# Altium integrated library Linear Technology Power Management System Supervisor, Monitor and Control.IntLib: 1611 symbols (part 89 of 100)
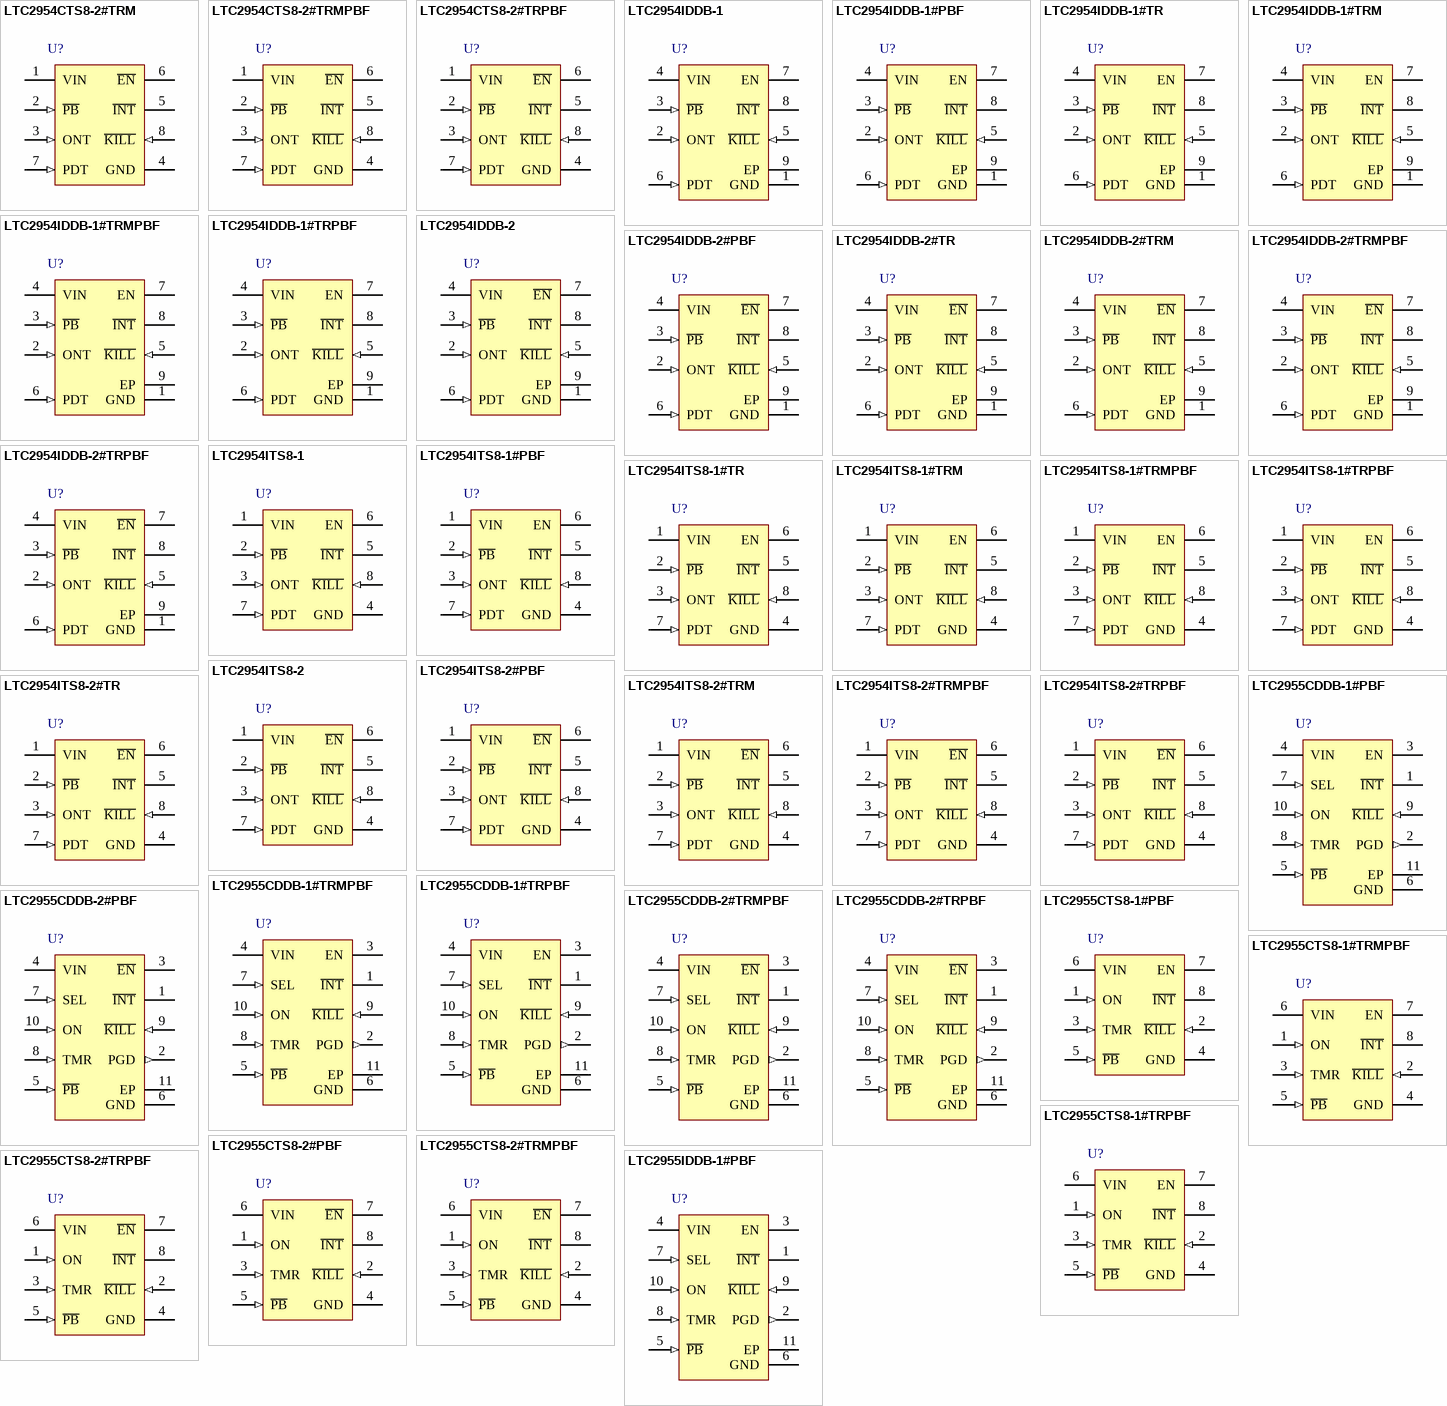
[diagram p133: symbols LTC2954CTS8-2#TRM to LTC2955IDDB-1#PBF]

## LTC2954CTS8-2#TRMPBF
designator U?
Pushbutton On / Off  Controller with µP Interrupt, 8-pin SOT23 (TS8-8), 0 to 70 degC, Pb-Free, Mini Tape and Reel; Manufacturer: Linear Technology; PartNumber: LTC2954CTS8-2#TRMPBF; Number of Supplies(#): 1; DatasheetVersion: Rev. B; PackageVersion: Rev. A, 08/2010; PackageReference: TS8-8; PackageDescription: 8-Pin Plastic TSOT-23, Body 2.9 x 1.63 mm, Pitch 0.65 mm; Supplier 1: Digi-Key; Supplier Part Number 1: LTC2954CTS8-2#TRMPBFTR-ND; Supplier 2: Digi-Key; Supplier Part Number 2: LTC2954CTS8-2#TRMPBFCT-ND; Supplier 3: Digi-Key; Supplier Part Number 3: LTC2954CTS8-2#TRMPBFDKR-ND; Supplier 4: Farnell; Supplier Part Number 4: 1663887RL; Supplier 5: Farnell; Supplier Part Number 5: 1663887; Supplier 6: Newark; Supplier Part Number 6: 56M7263; Packing: Mini Tape and Reel; RoHS: TRUE; Mounting Technology: Surface Mount; Code_JEDEC: MO-193; ComponentLink1Description: Manufacturer URL; ComponentLink1URL: http://www.linear.com/; ComponentLink2Description: Datasheet; ComponentLink2URL: http://cds.linear.com/docs/en/datasheet/2954fb.pdf; ComponentLink3Description: Package Specification; ComponentLink3URL: http://cds.linear.com/docs/en/packaging/SOT_8_05-08-1637.pdf
footprint LT-TS8-8-TSOT-23_V (SOT23, 8-Leads, Body 2.9x1.75mm, Pitch 0.65mm)
pins: 1 VIN (power) "Power Supply Input: 2.7V to 26.4V", 2 ~{PB} (in) "Pushbutton Input. Connecting P\B\ to  ground through a momentary switch provides on/off  control via the EN/E\N\ and I\N\T\ outputs. An internal 100k  pull-up resistor connects to an internal 1.9V bias voltage.  The rugged (See Datasheet)", 3 ONT (in) "Turn-On Time Input. Placing an external  capacitor to ground determines the additional time (6.4  seconds/uF) the P\B\ pin must be held low before the enable  output is asserted. Floating this pin results in a default  turn (See Datasheet)", 4 GND (power) "Device Ground.", 5 ~{INT} (oc) "Open Drain Interrupt Output. After a  pushbutton turn-off event is detected (tDB,OFF ), the LTC2954  interrupts the system (uP) by asserting the I\N\T\ pin low.  The uP would perform power-down and housekeeping  tasks and (See Datasheet)", 6 ~{EN} (oc) "Open Drain Enable Output.  This pin is intended to enable system power. EN is asserted  high after a valid P\B\ turn-on event (tDB,ON + tONT). EN is  released low if: a) K\I\L\L\ is not driven high (by uP) within  512ms of (See Datasheet)", 7 PDT (in) "Power-Down Time Input. A capacitor  to ground determines the additional time (6.4 seconds/uF)  that the pushbutton must be held low before immediately  releasing the EN/E\N\ and I\N\T\ outputs. Floating this pin  results in (See Datasheet)", 8 ~{KILL} (in) "Kill Input. Forcing K\I\L\L\ low releases the  enable output. During system turn-on, this pin is blanked by  a 512ms internal timer (tK\I\L\L\,ON BLANK) to allow the system  to pull K\I\L\L\ high. This pin has an accurate 0.(See Datasheet)"

## LTC2954CTS8-2#TRPBF
designator U?
Pushbutton On / Off  Controller with µP Interrupt, 8-pin SOT23 (TS8-8), 0 to 70 degC, Pb-Free, Tape and Reel; Manufacturer: Linear Technology; PartNumber: LTC2954CTS8-2#TRPBF; Number of Supplies(#): 1; DatasheetVersion: Rev. B; PackageVersion: Rev. A, 08/2010; PackageReference: TS8-8; PackageDescription: 8-Pin Plastic TSOT-23, Body 2.9 x 1.63 mm, Pitch 0.65 mm; Supplier 1: Digi-Key; Supplier Part Number 1: LTC2954CTS8-2#TRPBF-ND; Supplier 2: Newark; Supplier Part Number 2: 56M7264; Packing: Tape and Reel; RoHS: TRUE; Mounting Technology: Surface Mount; Code_JEDEC: MO-193; ComponentLink1Description: Manufacturer URL; ComponentLink1URL: http://www.linear.com/; ComponentLink2Description: Datasheet; ComponentLink2URL: http://cds.linear.com/docs/en/datasheet/2954fb.pdf; ComponentLink3Description: Package Specification; ComponentLink3URL: http://cds.linear.com/docs/en/packaging/SOT_8_05-08-1637.pdf
footprint LT-TS8-8-TSOT-23_V (SOT23, 8-Leads, Body 2.9x1.75mm, Pitch 0.65mm)
pins: 1 VIN (power) "Power Supply Input: 2.7V to 26.4V", 2 ~{PB} (in) "Pushbutton Input. Connecting P\B\ to  ground through a momentary switch provides on/off  control via the EN/E\N\ and I\N\T\ outputs. An internal 100k  pull-up resistor connects to an internal 1.9V bias voltage.  The rugged (See Datasheet)", 3 ONT (in) "Turn-On Time Input. Placing an external  capacitor to ground determines the additional time (6.4  seconds/uF) the P\B\ pin must be held low before the enable  output is asserted. Floating this pin results in a default  turn (See Datasheet)", 4 GND (power) "Device Ground.", 5 ~{INT} (oc) "Open Drain Interrupt Output. After a  pushbutton turn-off event is detected (tDB,OFF ), the LTC2954  interrupts the system (uP) by asserting the I\N\T\ pin low.  The uP would perform power-down and housekeeping  tasks and (See Datasheet)", 6 ~{EN} (oc) "Open Drain Enable Output.  This pin is intended to enable system power. EN is asserted  high after a valid P\B\ turn-on event (tDB,ON + tONT). EN is  released low if: a) K\I\L\L\ is not driven high (by uP) within  512ms of (See Datasheet)", 7 PDT (in) "Power-Down Time Input. A capacitor  to ground determines the additional time (6.4 seconds/uF)  that the pushbutton must be held low before immediately  releasing the EN/E\N\ and I\N\T\ outputs. Floating this pin  results in (See Datasheet)", 8 ~{KILL} (in) "Kill Input. Forcing K\I\L\L\ low releases the  enable output. During system turn-on, this pin is blanked by  a 512ms internal timer (tK\I\L\L\,ON BLANK) to allow the system  to pull K\I\L\L\ high. This pin has an accurate 0.(See Datasheet)"

## LTC2954IDDB-1
designator U?
Pushbutton On / Off  Controller with µP Interrupt, 8-pin SON (DDB-8), -40 to 85 degC; Manufacturer: Linear Technology; PartNumber: LTC2954IDDB-1; Number of Supplies(#): 1; DatasheetVersion: Rev. B; PackageVersion: Rev. B, 06/2010; PackageReference: DDB-8; PackageDescription: 8-Pin Plastic DFN, Body 3 x 2 mm, Pitch 0.5 mm; RoHS: FALSE; Mounting Technology: Surface Mount; Code_JEDEC: MO-229; ComponentLink1Description: Manufacturer URL; ComponentLink1URL: http://www.linear.com/; ComponentLink2Description: Datasheet; ComponentLink2URL: http://cds.linear.com/docs/en/datasheet/2954fb.pdf; ComponentLink3Description: Package Specification; ComponentLink3URL: http://cds.linear.com/docs/en/packaging/DFN_8_05-08-1702.pdf
footprint LT-DDB-8_V (SON, 8-Leads, Body 3x2mm, Pitch 0.5mm, Thermal Pad 2.2x0.61mm)
pins: 1 GND (power) "Device Ground.", 2 ONT (in) "Turn-On Time Input. Placing an external  capacitor to ground determines the additional time (6.4  seconds/uF) the P\B\ pin must be held low before the enable  output is asserted. Floating this pin results in a default  turn (See Datasheet)", 3 ~{PB} (in) "Pushbutton Input. Connecting P\B\ to  ground through a momentary switch provides on/off  control via the EN/E\N\ and I\N\T\ outputs. An internal 100k  pull-up resistor connects to an internal 1.9V bias voltage.  The rugged (See Datasheet)", 4 VIN (power) "Power Supply Input: 2.7V to 26.4V", 5 ~{KILL} (in) "Kill Input. Forcing K\I\L\L\ low releases the  enable output. During system turn-on, this pin is blanked by  a 512ms internal timer (tK\I\L\L\,ON BLANK) to allow the system  to pull K\I\L\L\ high. This pin has an accurate 0.(See Datasheet)", 6 PDT (in) "Power-Down Time Input. A capacitor  to ground determines the additional time (6.4 seconds/uF)  that the pushbutton must be held low before immediately  releasing the EN/E\N\ and I\N\T\ outputs. Floating this pin  results in (See Datasheet)", 7 EN (oc) "Open Drain Enable Output.  This pin is intended to enable system power. EN is asserted  high after a valid P\B\ turn-on event (tDB,ON + tONT). EN is  released low if: a) K\I\L\L\ is not driven high (by uP) within  512ms of (See Datasheet)", 8 ~{INT} (oc) "Open Drain Interrupt Output. After a  pushbutton turn-off event is detected (tDB,OFF ), the LTC2954  interrupts the system (uP) by asserting the I\N\T\ pin low.  The uP would perform power-down and housekeeping  tasks and (See Datasheet)", 9 EP (power) "Exposed Pad may be left  open or connected to device ground."

## LTC2954IDDB-1#PBF
designator U?
Pushbutton On / Off  Controller with µP Interrupt, 8-pin SON (DDB-8), -40 to 85 degC, Pb-Free; Manufacturer: Linear Technology; PartNumber: LTC2954IDDB-1#PBF; Number of Supplies(#): 1; DatasheetVersion: Rev. B; PackageVersion: Rev. B, 06/2010; PackageReference: DDB-8; PackageDescription: 8-Pin Plastic DFN, Body 3 x 2 mm, Pitch 0.5 mm; Supplier 1: Newark; Supplier Part Number 1: 78T3125; RoHS: TRUE; Mounting Technology: Surface Mount; Code_JEDEC: MO-229; ComponentLink1Description: Manufacturer URL; ComponentLink1URL: http://www.linear.com/; ComponentLink2Description: Datasheet; ComponentLink2URL: http://cds.linear.com/docs/en/datasheet/2954fb.pdf; ComponentLink3Description: Package Specification; ComponentLink3URL: http://cds.linear.com/docs/en/packaging/DFN_8_05-08-1702.pdf
footprint LT-DDB-8_V (SON, 8-Leads, Body 3x2mm, Pitch 0.5mm, Thermal Pad 2.2x0.61mm)
pins: 1 GND (power) "Device Ground.", 2 ONT (in) "Turn-On Time Input. Placing an external  capacitor to ground determines the additional time (6.4  seconds/uF) the P\B\ pin must be held low before the enable  output is asserted. Floating this pin results in a default  turn (See Datasheet)", 3 ~{PB} (in) "Pushbutton Input. Connecting P\B\ to  ground through a momentary switch provides on/off  control via the EN/E\N\ and I\N\T\ outputs. An internal 100k  pull-up resistor connects to an internal 1.9V bias voltage.  The rugged (See Datasheet)", 4 VIN (power) "Power Supply Input: 2.7V to 26.4V", 5 ~{KILL} (in) "Kill Input. Forcing K\I\L\L\ low releases the  enable output. During system turn-on, this pin is blanked by  a 512ms internal timer (tK\I\L\L\,ON BLANK) to allow the system  to pull K\I\L\L\ high. This pin has an accurate 0.(See Datasheet)", 6 PDT (in) "Power-Down Time Input. A capacitor  to ground determines the additional time (6.4 seconds/uF)  that the pushbutton must be held low before immediately  releasing the EN/E\N\ and I\N\T\ outputs. Floating this pin  results in (See Datasheet)", 7 EN (oc) "Open Drain Enable Output.  This pin is intended to enable system power. EN is asserted  high after a valid P\B\ turn-on event (tDB,ON + tONT). EN is  released low if: a) K\I\L\L\ is not driven high (by uP) within  512ms of (See Datasheet)", 8 ~{INT} (oc) "Open Drain Interrupt Output. After a  pushbutton turn-off event is detected (tDB,OFF ), the LTC2954  interrupts the system (uP) by asserting the I\N\T\ pin low.  The uP would perform power-down and housekeeping  tasks and (See Datasheet)", 9 EP (power) "Exposed Pad may be left  open or connected to device ground."

## LTC2954IDDB-1#TR
designator U?
Pushbutton On / Off  Controller with µP Interrupt, 8-pin SON (DDB-8), -40 to 85 degC, Tape and Reel; Manufacturer: Linear Technology; PartNumber: LTC2954IDDB-1#TR; Number of Supplies(#): 1; DatasheetVersion: Rev. B; PackageVersion: Rev. B, 06/2010; PackageReference: DDB-8; PackageDescription: 8-Pin Plastic DFN, Body 3 x 2 mm, Pitch 0.5 mm; Packing: Tape and Reel; RoHS: FALSE; Mounting Technology: Surface Mount; Code_JEDEC: MO-229; ComponentLink1Description: Manufacturer URL; ComponentLink1URL: http://www.linear.com/; ComponentLink2Description: Datasheet; ComponentLink2URL: http://cds.linear.com/docs/en/datasheet/2954fb.pdf; ComponentLink3Description: Package Specification; ComponentLink3URL: http://cds.linear.com/docs/en/packaging/DFN_8_05-08-1702.pdf
footprint LT-DDB-8_V (SON, 8-Leads, Body 3x2mm, Pitch 0.5mm, Thermal Pad 2.2x0.61mm)
pins: 1 GND (power) "Device Ground.", 2 ONT (in) "Turn-On Time Input. Placing an external  capacitor to ground determines the additional time (6.4  seconds/uF) the P\B\ pin must be held low before the enable  output is asserted. Floating this pin results in a default  turn (See Datasheet)", 3 ~{PB} (in) "Pushbutton Input. Connecting P\B\ to  ground through a momentary switch provides on/off  control via the EN/E\N\ and I\N\T\ outputs. An internal 100k  pull-up resistor connects to an internal 1.9V bias voltage.  The rugged (See Datasheet)", 4 VIN (power) "Power Supply Input: 2.7V to 26.4V", 5 ~{KILL} (in) "Kill Input. Forcing K\I\L\L\ low releases the  enable output. During system turn-on, this pin is blanked by  a 512ms internal timer (tK\I\L\L\,ON BLANK) to allow the system  to pull K\I\L\L\ high. This pin has an accurate 0.(See Datasheet)", 6 PDT (in) "Power-Down Time Input. A capacitor  to ground determines the additional time (6.4 seconds/uF)  that the pushbutton must be held low before immediately  releasing the EN/E\N\ and I\N\T\ outputs. Floating this pin  results in (See Datasheet)", 7 EN (oc) "Open Drain Enable Output.  This pin is intended to enable system power. EN is asserted  high after a valid P\B\ turn-on event (tDB,ON + tONT). EN is  released low if: a) K\I\L\L\ is not driven high (by uP) within  512ms of (See Datasheet)", 8 ~{INT} (oc) "Open Drain Interrupt Output. After a  pushbutton turn-off event is detected (tDB,OFF ), the LTC2954  interrupts the system (uP) by asserting the I\N\T\ pin low.  The uP would perform power-down and housekeeping  tasks and (See Datasheet)", 9 EP (power) "Exposed Pad may be left  open or connected to device ground."

## LTC2954IDDB-1#TRM
designator U?
Pushbutton On / Off  Controller with µP Interrupt, 8-pin SON (DDB-8), -40 to 85 degC, Mini Tape and Reel; Manufacturer: Linear Technology; PartNumber: LTC2954IDDB-1#TRM; Number of Supplies(#): 1; DatasheetVersion: Rev. B; PackageVersion: Rev. B, 06/2010; PackageReference: DDB-8; PackageDescription: 8-Pin Plastic DFN, Body 3 x 2 mm, Pitch 0.5 mm; Packing: Mini Tape and Reel; RoHS: FALSE; Mounting Technology: Surface Mount; Code_JEDEC: MO-229; ComponentLink1Description: Manufacturer URL; ComponentLink1URL: http://www.linear.com/; ComponentLink2Description: Datasheet; ComponentLink2URL: http://cds.linear.com/docs/en/datasheet/2954fb.pdf; ComponentLink3Description: Package Specification; ComponentLink3URL: http://cds.linear.com/docs/en/packaging/DFN_8_05-08-1702.pdf
footprint LT-DDB-8_V (SON, 8-Leads, Body 3x2mm, Pitch 0.5mm, Thermal Pad 2.2x0.61mm)
pins: 1 GND (power) "Device Ground.", 2 ONT (in) "Turn-On Time Input. Placing an external  capacitor to ground determines the additional time (6.4  seconds/uF) the P\B\ pin must be held low before the enable  output is asserted. Floating this pin results in a default  turn (See Datasheet)", 3 ~{PB} (in) "Pushbutton Input. Connecting P\B\ to  ground through a momentary switch provides on/off  control via the EN/E\N\ and I\N\T\ outputs. An internal 100k  pull-up resistor connects to an internal 1.9V bias voltage.  The rugged (See Datasheet)", 4 VIN (power) "Power Supply Input: 2.7V to 26.4V", 5 ~{KILL} (in) "Kill Input. Forcing K\I\L\L\ low releases the  enable output. During system turn-on, this pin is blanked by  a 512ms internal timer (tK\I\L\L\,ON BLANK) to allow the system  to pull K\I\L\L\ high. This pin has an accurate 0.(See Datasheet)", 6 PDT (in) "Power-Down Time Input. A capacitor  to ground determines the additional time (6.4 seconds/uF)  that the pushbutton must be held low before immediately  releasing the EN/E\N\ and I\N\T\ outputs. Floating this pin  results in (See Datasheet)", 7 EN (oc) "Open Drain Enable Output.  This pin is intended to enable system power. EN is asserted  high after a valid P\B\ turn-on event (tDB,ON + tONT). EN is  released low if: a) K\I\L\L\ is not driven high (by uP) within  512ms of (See Datasheet)", 8 ~{INT} (oc) "Open Drain Interrupt Output. After a  pushbutton turn-off event is detected (tDB,OFF ), the LTC2954  interrupts the system (uP) by asserting the I\N\T\ pin low.  The uP would perform power-down and housekeeping  tasks and (See Datasheet)", 9 EP (power) "Exposed Pad may be left  open or connected to device ground."

## LTC2954IDDB-1#TRMPBF
designator U?
Pushbutton On / Off  Controller with µP Interrupt, 8-pin SON (DDB-8), -40 to 85 degC, Pb-Free, Mini Tape and Reel; Manufacturer: Linear Technology; PartNumber: LTC2954IDDB-1#TRMPBF; Number of Supplies(#): 1; DatasheetVersion: Rev. B; PackageVersion: Rev. B, 06/2010; PackageReference: DDB-8; PackageDescription: 8-Pin Plastic DFN, Body 3 x 2 mm, Pitch 0.5 mm; Supplier 1: Digi-Key; Supplier Part Number 1: LTC2954IDDB-1#TRMPBFTR-ND; Supplier 2: Digi-Key; Supplier Part Number 2: LTC2954IDDB-1#TRMPBFCT-ND; Supplier 3: Digi-Key; Supplier Part Number 3: LTC2954IDDB-1#TRMPBFDKR-ND; Packing: Mini Tape and Reel; RoHS: TRUE; Mounting Technology: Surface Mount; Code_JEDEC: MO-229; ComponentLink1Description: Manufacturer URL; ComponentLink1URL: http://www.linear.com/; ComponentLink2Description: Datasheet; ComponentLink2URL: http://cds.linear.com/docs/en/datasheet/2954fb.pdf; ComponentLink3Description: Package Specification; ComponentLink3URL: http://cds.linear.com/docs/en/packaging/DFN_8_05-08-1702.pdf
footprint LT-DDB-8_V (SON, 8-Leads, Body 3x2mm, Pitch 0.5mm, Thermal Pad 2.2x0.61mm)
pins: 1 GND (power) "Device Ground.", 2 ONT (in) "Turn-On Time Input. Placing an external  capacitor to ground determines the additional time (6.4  seconds/uF) the P\B\ pin must be held low before the enable  output is asserted. Floating this pin results in a default  turn (See Datasheet)", 3 ~{PB} (in) "Pushbutton Input. Connecting P\B\ to  ground through a momentary switch provides on/off  control via the EN/E\N\ and I\N\T\ outputs. An internal 100k  pull-up resistor connects to an internal 1.9V bias voltage.  The rugged (See Datasheet)", 4 VIN (power) "Power Supply Input: 2.7V to 26.4V", 5 ~{KILL} (in) "Kill Input. Forcing K\I\L\L\ low releases the  enable output. During system turn-on, this pin is blanked by  a 512ms internal timer (tK\I\L\L\,ON BLANK) to allow the system  to pull K\I\L\L\ high. This pin has an accurate 0.(See Datasheet)", 6 PDT (in) "Power-Down Time Input. A capacitor  to ground determines the additional time (6.4 seconds/uF)  that the pushbutton must be held low before immediately  releasing the EN/E\N\ and I\N\T\ outputs. Floating this pin  results in (See Datasheet)", 7 EN (oc) "Open Drain Enable Output.  This pin is intended to enable system power. EN is asserted  high after a valid P\B\ turn-on event (tDB,ON + tONT). EN is  released low if: a) K\I\L\L\ is not driven high (by uP) within  512ms of (See Datasheet)", 8 ~{INT} (oc) "Open Drain Interrupt Output. After a  pushbutton turn-off event is detected (tDB,OFF ), the LTC2954  interrupts the system (uP) by asserting the I\N\T\ pin low.  The uP would perform power-down and housekeeping  tasks and (See Datasheet)", 9 EP (power) "Exposed Pad may be left  open or connected to device ground."

## LTC2954IDDB-1#TRPBF
designator U?
Pushbutton On / Off  Controller with µP Interrupt, 8-pin SON (DDB-8), -40 to 85 degC, Pb-Free, Tape and Reel; Manufacturer: Linear Technology; PartNumber: LTC2954IDDB-1#TRPBF; Number of Supplies(#): 1; DatasheetVersion: Rev. B; PackageVersion: Rev. B, 06/2010; PackageReference: DDB-8; PackageDescription: 8-Pin Plastic DFN, Body 3 x 2 mm, Pitch 0.5 mm; Supplier 1: Digi-Key; Supplier Part Number 1: LTC2954IDDB-1#TRPBF-ND; Packing: Tape and Reel; RoHS: TRUE; Mounting Technology: Surface Mount; Code_JEDEC: MO-229; ComponentLink1Description: Manufacturer URL; ComponentLink1URL: http://www.linear.com/; ComponentLink2Description: Datasheet; ComponentLink2URL: http://cds.linear.com/docs/en/datasheet/2954fb.pdf; ComponentLink3Description: Package Specification; ComponentLink3URL: http://cds.linear.com/docs/en/packaging/DFN_8_05-08-1702.pdf
footprint LT-DDB-8_V (SON, 8-Leads, Body 3x2mm, Pitch 0.5mm, Thermal Pad 2.2x0.61mm)
pins: 1 GND (power) "Device Ground.", 2 ONT (in) "Turn-On Time Input. Placing an external  capacitor to ground determines the additional time (6.4  seconds/uF) the P\B\ pin must be held low before the enable  output is asserted. Floating this pin results in a default  turn (See Datasheet)", 3 ~{PB} (in) "Pushbutton Input. Connecting P\B\ to  ground through a momentary switch provides on/off  control via the EN/E\N\ and I\N\T\ outputs. An internal 100k  pull-up resistor connects to an internal 1.9V bias voltage.  The rugged (See Datasheet)", 4 VIN (power) "Power Supply Input: 2.7V to 26.4V", 5 ~{KILL} (in) "Kill Input. Forcing K\I\L\L\ low releases the  enable output. During system turn-on, this pin is blanked by  a 512ms internal timer (tK\I\L\L\,ON BLANK) to allow the system  to pull K\I\L\L\ high. This pin has an accurate 0.(See Datasheet)", 6 PDT (in) "Power-Down Time Input. A capacitor  to ground determines the additional time (6.4 seconds/uF)  that the pushbutton must be held low before immediately  releasing the EN/E\N\ and I\N\T\ outputs. Floating this pin  results in (See Datasheet)", 7 EN (oc) "Open Drain Enable Output.  This pin is intended to enable system power. EN is asserted  high after a valid P\B\ turn-on event (tDB,ON + tONT). EN is  released low if: a) K\I\L\L\ is not driven high (by uP) within  512ms of (See Datasheet)", 8 ~{INT} (oc) "Open Drain Interrupt Output. After a  pushbutton turn-off event is detected (tDB,OFF ), the LTC2954  interrupts the system (uP) by asserting the I\N\T\ pin low.  The uP would perform power-down and housekeeping  tasks and (See Datasheet)", 9 EP (power) "Exposed Pad may be left  open or connected to device ground."

## LTC2954IDDB-2
designator U?
Pushbutton On / Off  Controller with µP Interrupt, 8-pin SON (DDB-8), -40 to 85 degC; Manufacturer: Linear Technology; PartNumber: LTC2954IDDB-2; Number of Supplies(#): 1; DatasheetVersion: Rev. B; PackageVersion: Rev. B, 06/2010; PackageReference: DDB-8; PackageDescription: 8-Pin Plastic DFN, Body 3 x 2 mm, Pitch 0.5 mm; RoHS: FALSE; Mounting Technology: Surface Mount; Code_JEDEC: MO-229; ComponentLink1Description: Manufacturer URL; ComponentLink1URL: http://www.linear.com/; ComponentLink2Description: Datasheet; ComponentLink2URL: http://cds.linear.com/docs/en/datasheet/2954fb.pdf; ComponentLink3Description: Package Specification; ComponentLink3URL: http://cds.linear.com/docs/en/packaging/DFN_8_05-08-1702.pdf
footprint LT-DDB-8_V (SON, 8-Leads, Body 3x2mm, Pitch 0.5mm, Thermal Pad 2.2x0.61mm)
pins: 1 GND (power) "Device Ground.", 2 ONT (in) "Turn-On Time Input. Placing an external  capacitor to ground determines the additional time (6.4  seconds/uF) the P\B\ pin must be held low before the enable  output is asserted. Floating this pin results in a default  turn (See Datasheet)", 3 ~{PB} (in) "Pushbutton Input. Connecting P\B\ to  ground through a momentary switch provides on/off  control via the EN/E\N\ and I\N\T\ outputs. An internal 100k  pull-up resistor connects to an internal 1.9V bias voltage.  The rugged (See Datasheet)", 4 VIN (power) "Power Supply Input: 2.7V to 26.4V", 5 ~{KILL} (in) "Kill Input. Forcing K\I\L\L\ low releases the  enable output. During system turn-on, this pin is blanked by  a 512ms internal timer (tK\I\L\L\,ON BLANK) to allow the system  to pull K\I\L\L\ high. This pin has an accurate 0.(See Datasheet)", 6 PDT (in) "Power-Down Time Input. A capacitor  to ground determines the additional time (6.4 seconds/uF)  that the pushbutton must be held low before immediately  releasing the EN/E\N\ and I\N\T\ outputs. Floating this pin  results in (See Datasheet)", 7 ~{EN} (oc) "Open Drain Enable Output.  This pin is intended to enable system power. EN is asserted  high after a valid P\B\ turn-on event (tDB,ON + tONT). EN is  released low if: a) K\I\L\L\ is not driven high (by uP) within  512ms of (See Datasheet)", 8 ~{INT} (oc) "Open Drain Interrupt Output. After a  pushbutton turn-off event is detected (tDB,OFF ), the LTC2954  interrupts the system (uP) by asserting the I\N\T\ pin low.  The uP would perform power-down and housekeeping  tasks and (See Datasheet)", 9 EP (power) "Exposed Pad may be left  open or connected to device ground."

## LTC2954IDDB-2#PBF
designator U?
Pushbutton On / Off  Controller with µP Interrupt, 8-pin SON (DDB-8), -40 to 85 degC, Pb-Free; Manufacturer: Linear Technology; PartNumber: LTC2954IDDB-2#PBF; Number of Supplies(#): 1; DatasheetVersion: Rev. B; PackageVersion: Rev. B, 06/2010; PackageReference: DDB-8; PackageDescription: 8-Pin Plastic DFN, Body 3 x 2 mm, Pitch 0.5 mm; Supplier 1: Newark; Supplier Part Number 1: 78T3126; RoHS: TRUE; Mounting Technology: Surface Mount; Code_JEDEC: MO-229; ComponentLink1Description: Manufacturer URL; ComponentLink1URL: http://www.linear.com/; ComponentLink2Description: Datasheet; ComponentLink2URL: http://cds.linear.com/docs/en/datasheet/2954fb.pdf; ComponentLink3Description: Package Specification; ComponentLink3URL: http://cds.linear.com/docs/en/packaging/DFN_8_05-08-1702.pdf
footprint LT-DDB-8_V (SON, 8-Leads, Body 3x2mm, Pitch 0.5mm, Thermal Pad 2.2x0.61mm)
pins: 1 GND (power) "Device Ground.", 2 ONT (in) "Turn-On Time Input. Placing an external  capacitor to ground determines the additional time (6.4  seconds/uF) the P\B\ pin must be held low before the enable  output is asserted. Floating this pin results in a default  turn (See Datasheet)", 3 ~{PB} (in) "Pushbutton Input. Connecting P\B\ to  ground through a momentary switch provides on/off  control via the EN/E\N\ and I\N\T\ outputs. An internal 100k  pull-up resistor connects to an internal 1.9V bias voltage.  The rugged (See Datasheet)", 4 VIN (power) "Power Supply Input: 2.7V to 26.4V", 5 ~{KILL} (in) "Kill Input. Forcing K\I\L\L\ low releases the  enable output. During system turn-on, this pin is blanked by  a 512ms internal timer (tK\I\L\L\,ON BLANK) to allow the system  to pull K\I\L\L\ high. This pin has an accurate 0.(See Datasheet)", 6 PDT (in) "Power-Down Time Input. A capacitor  to ground determines the additional time (6.4 seconds/uF)  that the pushbutton must be held low before immediately  releasing the EN/E\N\ and I\N\T\ outputs. Floating this pin  results in (See Datasheet)", 7 ~{EN} (oc) "Open Drain Enable Output.  This pin is intended to enable system power. EN is asserted  high after a valid P\B\ turn-on event (tDB,ON + tONT). EN is  released low if: a) K\I\L\L\ is not driven high (by uP) within  512ms of (See Datasheet)", 8 ~{INT} (oc) "Open Drain Interrupt Output. After a  pushbutton turn-off event is detected (tDB,OFF ), the LTC2954  interrupts the system (uP) by asserting the I\N\T\ pin low.  The uP would perform power-down and housekeeping  tasks and (See Datasheet)", 9 EP (power) "Exposed Pad may be left  open or connected to device ground."

## LTC2954IDDB-2#TR
designator U?
Pushbutton On / Off  Controller with µP Interrupt, 8-pin SON (DDB-8), -40 to 85 degC, Tape and Reel; Manufacturer: Linear Technology; PartNumber: LTC2954IDDB-2#TR; Number of Supplies(#): 1; DatasheetVersion: Rev. B; PackageVersion: Rev. B, 06/2010; PackageReference: DDB-8; PackageDescription: 8-Pin Plastic DFN, Body 3 x 2 mm, Pitch 0.5 mm; Packing: Tape and Reel; RoHS: FALSE; Mounting Technology: Surface Mount; Code_JEDEC: MO-229; ComponentLink1Description: Manufacturer URL; ComponentLink1URL: http://www.linear.com/; ComponentLink2Description: Datasheet; ComponentLink2URL: http://cds.linear.com/docs/en/datasheet/2954fb.pdf; ComponentLink3Description: Package Specification; ComponentLink3URL: http://cds.linear.com/docs/en/packaging/DFN_8_05-08-1702.pdf
footprint LT-DDB-8_V (SON, 8-Leads, Body 3x2mm, Pitch 0.5mm, Thermal Pad 2.2x0.61mm)
pins: 1 GND (power) "Device Ground.", 2 ONT (in) "Turn-On Time Input. Placing an external  capacitor to ground determines the additional time (6.4  seconds/uF) the P\B\ pin must be held low before the enable  output is asserted. Floating this pin results in a default  turn (See Datasheet)", 3 ~{PB} (in) "Pushbutton Input. Connecting P\B\ to  ground through a momentary switch provides on/off  control via the EN/E\N\ and I\N\T\ outputs. An internal 100k  pull-up resistor connects to an internal 1.9V bias voltage.  The rugged (See Datasheet)", 4 VIN (power) "Power Supply Input: 2.7V to 26.4V", 5 ~{KILL} (in) "Kill Input. Forcing K\I\L\L\ low releases the  enable output. During system turn-on, this pin is blanked by  a 512ms internal timer (tK\I\L\L\,ON BLANK) to allow the system  to pull K\I\L\L\ high. This pin has an accurate 0.(See Datasheet)", 6 PDT (in) "Power-Down Time Input. A capacitor  to ground determines the additional time (6.4 seconds/uF)  that the pushbutton must be held low before immediately  releasing the EN/E\N\ and I\N\T\ outputs. Floating this pin  results in (See Datasheet)", 7 ~{EN} (oc) "Open Drain Enable Output.  This pin is intended to enable system power. EN is asserted  high after a valid P\B\ turn-on event (tDB,ON + tONT). EN is  released low if: a) K\I\L\L\ is not driven high (by uP) within  512ms of (See Datasheet)", 8 ~{INT} (oc) "Open Drain Interrupt Output. After a  pushbutton turn-off event is detected (tDB,OFF ), the LTC2954  interrupts the system (uP) by asserting the I\N\T\ pin low.  The uP would perform power-down and housekeeping  tasks and (See Datasheet)", 9 EP (power) "Exposed Pad may be left  open or connected to device ground."

## LTC2954IDDB-2#TRM
designator U?
Pushbutton On / Off  Controller with µP Interrupt, 8-pin SON (DDB-8), -40 to 85 degC, Mini Tape and Reel; Manufacturer: Linear Technology; PartNumber: LTC2954IDDB-2#TRM; Number of Supplies(#): 1; DatasheetVersion: Rev. B; PackageVersion: Rev. B, 06/2010; PackageReference: DDB-8; PackageDescription: 8-Pin Plastic DFN, Body 3 x 2 mm, Pitch 0.5 mm; Packing: Mini Tape and Reel; RoHS: FALSE; Mounting Technology: Surface Mount; Code_JEDEC: MO-229; ComponentLink1Description: Manufacturer URL; ComponentLink1URL: http://www.linear.com/; ComponentLink2Description: Datasheet; ComponentLink2URL: http://cds.linear.com/docs/en/datasheet/2954fb.pdf; ComponentLink3Description: Package Specification; ComponentLink3URL: http://cds.linear.com/docs/en/packaging/DFN_8_05-08-1702.pdf
footprint LT-DDB-8_V (SON, 8-Leads, Body 3x2mm, Pitch 0.5mm, Thermal Pad 2.2x0.61mm)
pins: 1 GND (power) "Device Ground.", 2 ONT (in) "Turn-On Time Input. Placing an external  capacitor to ground determines the additional time (6.4  seconds/uF) the P\B\ pin must be held low before the enable  output is asserted. Floating this pin results in a default  turn (See Datasheet)", 3 ~{PB} (in) "Pushbutton Input. Connecting P\B\ to  ground through a momentary switch provides on/off  control via the EN/E\N\ and I\N\T\ outputs. An internal 100k  pull-up resistor connects to an internal 1.9V bias voltage.  The rugged (See Datasheet)", 4 VIN (power) "Power Supply Input: 2.7V to 26.4V", 5 ~{KILL} (in) "Kill Input. Forcing K\I\L\L\ low releases the  enable output. During system turn-on, this pin is blanked by  a 512ms internal timer (tK\I\L\L\,ON BLANK) to allow the system  to pull K\I\L\L\ high. This pin has an accurate 0.(See Datasheet)", 6 PDT (in) "Power-Down Time Input. A capacitor  to ground determines the additional time (6.4 seconds/uF)  that the pushbutton must be held low before immediately  releasing the EN/E\N\ and I\N\T\ outputs. Floating this pin  results in (See Datasheet)", 7 ~{EN} (oc) "Open Drain Enable Output.  This pin is intended to enable system power. EN is asserted  high after a valid P\B\ turn-on event (tDB,ON + tONT). EN is  released low if: a) K\I\L\L\ is not driven high (by uP) within  512ms of (See Datasheet)", 8 ~{INT} (oc) "Open Drain Interrupt Output. After a  pushbutton turn-off event is detected (tDB,OFF ), the LTC2954  interrupts the system (uP) by asserting the I\N\T\ pin low.  The uP would perform power-down and housekeeping  tasks and (See Datasheet)", 9 EP (power) "Exposed Pad may be left  open or connected to device ground."

## LTC2954IDDB-2#TRMPBF
designator U?
Pushbutton On / Off  Controller with µP Interrupt, 8-pin SON (DDB-8), -40 to 85 degC, Pb-Free, Mini Tape and Reel; Manufacturer: Linear Technology; PartNumber: LTC2954IDDB-2#TRMPBF; Number of Supplies(#): 1; DatasheetVersion: Rev. B; PackageVersion: Rev. B, 06/2010; PackageReference: DDB-8; PackageDescription: 8-Pin Plastic DFN, Body 3 x 2 mm, Pitch 0.5 mm; Supplier 1: Digi-Key; Supplier Part Number 1: LTC2954IDDB-2#TRMPBFTR-ND; Supplier 2: Digi-Key; Supplier Part Number 2: LTC2954IDDB-2#TRMPBFCT-ND; Supplier 3: Digi-Key; Supplier Part Number 3: LTC2954IDDB-2#TRMPBFDKR-ND; Supplier 4: Newark; Supplier Part Number 4: 56M7271; Packing: Mini Tape and Reel; RoHS: TRUE; Mounting Technology: Surface Mount; Code_JEDEC: MO-229; ComponentLink1Description: Manufacturer URL; ComponentLink1URL: http://www.linear.com/; ComponentLink2Description: Datasheet; ComponentLink2URL: http://cds.linear.com/docs/en/datasheet/2954fb.pdf; ComponentLink3Description: Package Specification; ComponentLink3URL: http://cds.linear.com/docs/en/packaging/DFN_8_05-08-1702.pdf
footprint LT-DDB-8_V (SON, 8-Leads, Body 3x2mm, Pitch 0.5mm, Thermal Pad 2.2x0.61mm)
pins: 1 GND (power) "Device Ground.", 2 ONT (in) "Turn-On Time Input. Placing an external  capacitor to ground determines the additional time (6.4  seconds/uF) the P\B\ pin must be held low before the enable  output is asserted. Floating this pin results in a default  turn (See Datasheet)", 3 ~{PB} (in) "Pushbutton Input. Connecting P\B\ to  ground through a momentary switch provides on/off  control via the EN/E\N\ and I\N\T\ outputs. An internal 100k  pull-up resistor connects to an internal 1.9V bias voltage.  The rugged (See Datasheet)", 4 VIN (power) "Power Supply Input: 2.7V to 26.4V", 5 ~{KILL} (in) "Kill Input. Forcing K\I\L\L\ low releases the  enable output. During system turn-on, this pin is blanked by  a 512ms internal timer (tK\I\L\L\,ON BLANK) to allow the system  to pull K\I\L\L\ high. This pin has an accurate 0.(See Datasheet)", 6 PDT (in) "Power-Down Time Input. A capacitor  to ground determines the additional time (6.4 seconds/uF)  that the pushbutton must be held low before immediately  releasing the EN/E\N\ and I\N\T\ outputs. Floating this pin  results in (See Datasheet)", 7 ~{EN} (oc) "Open Drain Enable Output.  This pin is intended to enable system power. EN is asserted  high after a valid P\B\ turn-on event (tDB,ON + tONT). EN is  released low if: a) K\I\L\L\ is not driven high (by uP) within  512ms of (See Datasheet)", 8 ~{INT} (oc) "Open Drain Interrupt Output. After a  pushbutton turn-off event is detected (tDB,OFF ), the LTC2954  interrupts the system (uP) by asserting the I\N\T\ pin low.  The uP would perform power-down and housekeeping  tasks and (See Datasheet)", 9 EP (power) "Exposed Pad may be left  open or connected to device ground."

## LTC2954IDDB-2#TRPBF
designator U?
Pushbutton On / Off  Controller with µP Interrupt, 8-pin SON (DDB-8), -40 to 85 degC, Pb-Free, Tape and Reel; Manufacturer: Linear Technology; PartNumber: LTC2954IDDB-2#TRPBF; Number of Supplies(#): 1; DatasheetVersion: Rev. B; PackageVersion: Rev. B, 06/2010; PackageReference: DDB-8; PackageDescription: 8-Pin Plastic DFN, Body 3 x 2 mm, Pitch 0.5 mm; Supplier 1: Digi-Key; Supplier Part Number 1: LTC2954IDDB-2#TRPBF-ND; Packing: Tape and Reel; RoHS: TRUE; Mounting Technology: Surface Mount; Code_JEDEC: MO-229; ComponentLink1Description: Manufacturer URL; ComponentLink1URL: http://www.linear.com/; ComponentLink2Description: Datasheet; ComponentLink2URL: http://cds.linear.com/docs/en/datasheet/2954fb.pdf; ComponentLink3Description: Package Specification; ComponentLink3URL: http://cds.linear.com/docs/en/packaging/DFN_8_05-08-1702.pdf
footprint LT-DDB-8_V (SON, 8-Leads, Body 3x2mm, Pitch 0.5mm, Thermal Pad 2.2x0.61mm)
pins: 1 GND (power) "Device Ground.", 2 ONT (in) "Turn-On Time Input. Placing an external  capacitor to ground determines the additional time (6.4  seconds/uF) the P\B\ pin must be held low before the enable  output is asserted. Floating this pin results in a default  turn (See Datasheet)", 3 ~{PB} (in) "Pushbutton Input. Connecting P\B\ to  ground through a momentary switch provides on/off  control via the EN/E\N\ and I\N\T\ outputs. An internal 100k  pull-up resistor connects to an internal 1.9V bias voltage.  The rugged (See Datasheet)", 4 VIN (power) "Power Supply Input: 2.7V to 26.4V", 5 ~{KILL} (in) "Kill Input. Forcing K\I\L\L\ low releases the  enable output. During system turn-on, this pin is blanked by  a 512ms internal timer (tK\I\L\L\,ON BLANK) to allow the system  to pull K\I\L\L\ high. This pin has an accurate 0.(See Datasheet)", 6 PDT (in) "Power-Down Time Input. A capacitor  to ground determines the additional time (6.4 seconds/uF)  that the pushbutton must be held low before immediately  releasing the EN/E\N\ and I\N\T\ outputs. Floating this pin  results in (See Datasheet)", 7 ~{EN} (oc) "Open Drain Enable Output.  This pin is intended to enable system power. EN is asserted  high after a valid P\B\ turn-on event (tDB,ON + tONT). EN is  released low if: a) K\I\L\L\ is not driven high (by uP) within  512ms of (See Datasheet)", 8 ~{INT} (oc) "Open Drain Interrupt Output. After a  pushbutton turn-off event is detected (tDB,OFF ), the LTC2954  interrupts the system (uP) by asserting the I\N\T\ pin low.  The uP would perform power-down and housekeeping  tasks and (See Datasheet)", 9 EP (power) "Exposed Pad may be left  open or connected to device ground."

## LTC2954ITS8-1
designator U?
Pushbutton On / Off  Controller with µP Interrupt, 8-pin SOT23 (TS8-8), -40 to 85 degC; Manufacturer: Linear Technology; PartNumber: LTC2954ITS8-1; Number of Supplies(#): 1; DatasheetVersion: Rev. B; PackageVersion: Rev. A, 08/2010; PackageReference: TS8-8; PackageDescription: 8-Pin Plastic TSOT-23, Body 2.9 x 1.63 mm, Pitch 0.65 mm; RoHS: FALSE; Mounting Technology: Surface Mount; Code_JEDEC: MO-193; ComponentLink1Description: Manufacturer URL; ComponentLink1URL: http://www.linear.com/; ComponentLink2Description: Datasheet; ComponentLink2URL: http://cds.linear.com/docs/en/datasheet/2954fb.pdf; ComponentLink3Description: Package Specification; ComponentLink3URL: http://cds.linear.com/docs/en/packaging/SOT_8_05-08-1637.pdf
footprint LT-TS8-8-TSOT-23_V (SOT23, 8-Leads, Body 2.9x1.75mm, Pitch 0.65mm)
pins: 1 VIN (power) "Power Supply Input: 2.7V to 26.4V", 2 ~{PB} (in) "Pushbutton Input. Connecting P\B\ to  ground through a momentary switch provides on/off  control via the EN/E\N\ and I\N\T\ outputs. An internal 100k  pull-up resistor connects to an internal 1.9V bias voltage.  The rugged (See Datasheet)", 3 ONT (in) "Turn-On Time Input. Placing an external  capacitor to ground determines the additional time (6.4  seconds/uF) the P\B\ pin must be held low before the enable  output is asserted. Floating this pin results in a default  turn (See Datasheet)", 4 GND (power) "Device Ground.", 5 ~{INT} (oc) "Open Drain Interrupt Output. After a  pushbutton turn-off event is detected (tDB,OFF ), the LTC2954  interrupts the system (uP) by asserting the I\N\T\ pin low.  The uP would perform power-down and housekeeping  tasks and (See Datasheet)", 6 EN (oc) "Open Drain Enable Output.  This pin is intended to enable system power. EN is asserted  high after a valid P\B\ turn-on event (tDB,ON + tONT). EN is  released low if: a) K\I\L\L\ is not driven high (by uP) within  512ms of (See Datasheet)", 7 PDT (in) "Power-Down Time Input. A capacitor  to ground determines the additional time (6.4 seconds/uF)  that the pushbutton must be held low before immediately  releasing the EN/E\N\ and I\N\T\ outputs. Floating this pin  results in (See Datasheet)", 8 ~{KILL} (in) "Kill Input. Forcing K\I\L\L\ low releases the  enable output. During system turn-on, this pin is blanked by  a 512ms internal timer (tK\I\L\L\,ON BLANK) to allow the system  to pull K\I\L\L\ high. This pin has an accurate 0.(See Datasheet)"

## LTC2954ITS8-1#PBF
designator U?
Pushbutton On / Off  Controller with µP Interrupt, 8-pin SOT23 (TS8-8), -40 to 85 degC, Pb-Free; Manufacturer: Linear Technology; PartNumber: LTC2954ITS8-1#PBF; Number of Supplies(#): 1; DatasheetVersion: Rev. B; PackageVersion: Rev. A, 08/2010; PackageReference: TS8-8; PackageDescription: 8-Pin Plastic TSOT-23, Body 2.9 x 1.63 mm, Pitch 0.65 mm; Supplier 1: Farnell; Supplier Part Number 1: 2308136; Supplier 2: Newark; Supplier Part Number 2: 78T3127; RoHS: TRUE; Mounting Technology: Surface Mount; Code_JEDEC: MO-193; ComponentLink1Description: Manufacturer URL; ComponentLink1URL: http://www.linear.com/; ComponentLink2Description: Datasheet; ComponentLink2URL: http://cds.linear.com/docs/en/datasheet/2954fb.pdf; ComponentLink3Description: Package Specification; ComponentLink3URL: http://cds.linear.com/docs/en/packaging/SOT_8_05-08-1637.pdf
footprint LT-TS8-8-TSOT-23_V (SOT23, 8-Leads, Body 2.9x1.75mm, Pitch 0.65mm)
pins: 1 VIN (power) "Power Supply Input: 2.7V to 26.4V", 2 ~{PB} (in) "Pushbutton Input. Connecting P\B\ to  ground through a momentary switch provides on/off  control via the EN/E\N\ and I\N\T\ outputs. An internal 100k  pull-up resistor connects to an internal 1.9V bias voltage.  The rugged (See Datasheet)", 3 ONT (in) "Turn-On Time Input. Placing an external  capacitor to ground determines the additional time (6.4  seconds/uF) the P\B\ pin must be held low before the enable  output is asserted. Floating this pin results in a default  turn (See Datasheet)", 4 GND (power) "Device Ground.", 5 ~{INT} (oc) "Open Drain Interrupt Output. After a  pushbutton turn-off event is detected (tDB,OFF ), the LTC2954  interrupts the system (uP) by asserting the I\N\T\ pin low.  The uP would perform power-down and housekeeping  tasks and (See Datasheet)", 6 EN (oc) "Open Drain Enable Output.  This pin is intended to enable system power. EN is asserted  high after a valid P\B\ turn-on event (tDB,ON + tONT). EN is  released low if: a) K\I\L\L\ is not driven high (by uP) within  512ms of (See Datasheet)", 7 PDT (in) "Power-Down Time Input. A capacitor  to ground determines the additional time (6.4 seconds/uF)  that the pushbutton must be held low before immediately  releasing the EN/E\N\ and I\N\T\ outputs. Floating this pin  results in (See Datasheet)", 8 ~{KILL} (in) "Kill Input. Forcing K\I\L\L\ low releases the  enable output. During system turn-on, this pin is blanked by  a 512ms internal timer (tK\I\L\L\,ON BLANK) to allow the system  to pull K\I\L\L\ high. This pin has an accurate 0.(See Datasheet)"

## LTC2954ITS8-1#TR
designator U?
Pushbutton On / Off  Controller with µP Interrupt, 8-pin SOT23 (TS8-8), -40 to 85 degC, Tape and Reel; Manufacturer: Linear Technology; PartNumber: LTC2954ITS8-1#TR; Number of Supplies(#): 1; DatasheetVersion: Rev. B; PackageVersion: Rev. A, 08/2010; PackageReference: TS8-8; PackageDescription: 8-Pin Plastic TSOT-23, Body 2.9 x 1.63 mm, Pitch 0.65 mm; Packing: Tape and Reel; RoHS: FALSE; Mounting Technology: Surface Mount; Code_JEDEC: MO-193; ComponentLink1Description: Manufacturer URL; ComponentLink1URL: http://www.linear.com/; ComponentLink2Description: Datasheet; ComponentLink2URL: http://cds.linear.com/docs/en/datasheet/2954fb.pdf; ComponentLink3Description: Package Specification; ComponentLink3URL: http://cds.linear.com/docs/en/packaging/SOT_8_05-08-1637.pdf
footprint LT-TS8-8-TSOT-23_V (SOT23, 8-Leads, Body 2.9x1.75mm, Pitch 0.65mm)
pins: 1 VIN (power) "Power Supply Input: 2.7V to 26.4V", 2 ~{PB} (in) "Pushbutton Input. Connecting P\B\ to  ground through a momentary switch provides on/off  control via the EN/E\N\ and I\N\T\ outputs. An internal 100k  pull-up resistor connects to an internal 1.9V bias voltage.  The rugged (See Datasheet)", 3 ONT (in) "Turn-On Time Input. Placing an external  capacitor to ground determines the additional time (6.4  seconds/uF) the P\B\ pin must be held low before the enable  output is asserted. Floating this pin results in a default  turn (See Datasheet)", 4 GND (power) "Device Ground.", 5 ~{INT} (oc) "Open Drain Interrupt Output. After a  pushbutton turn-off event is detected (tDB,OFF ), the LTC2954  interrupts the system (uP) by asserting the I\N\T\ pin low.  The uP would perform power-down and housekeeping  tasks and (See Datasheet)", 6 EN (oc) "Open Drain Enable Output.  This pin is intended to enable system power. EN is asserted  high after a valid P\B\ turn-on event (tDB,ON + tONT). EN is  released low if: a) K\I\L\L\ is not driven high (by uP) within  512ms of (See Datasheet)", 7 PDT (in) "Power-Down Time Input. A capacitor  to ground determines the additional time (6.4 seconds/uF)  that the pushbutton must be held low before immediately  releasing the EN/E\N\ and I\N\T\ outputs. Floating this pin  results in (See Datasheet)", 8 ~{KILL} (in) "Kill Input. Forcing K\I\L\L\ low releases the  enable output. During system turn-on, this pin is blanked by  a 512ms internal timer (tK\I\L\L\,ON BLANK) to allow the system  to pull K\I\L\L\ high. This pin has an accurate 0.(See Datasheet)"

## LTC2954ITS8-1#TRM
designator U?
Pushbutton On / Off  Controller with µP Interrupt, 8-pin SOT23 (TS8-8), -40 to 85 degC, Mini Tape and Reel; Manufacturer: Linear Technology; PartNumber: LTC2954ITS8-1#TRM; Number of Supplies(#): 1; DatasheetVersion: Rev. B; PackageVersion: Rev. A, 08/2010; PackageReference: TS8-8; PackageDescription: 8-Pin Plastic TSOT-23, Body 2.9 x 1.63 mm, Pitch 0.65 mm; Packing: Mini Tape and Reel; RoHS: FALSE; Mounting Technology: Surface Mount; Code_JEDEC: MO-193; ComponentLink1Description: Manufacturer URL; ComponentLink1URL: http://www.linear.com/; ComponentLink2Description: Datasheet; ComponentLink2URL: http://cds.linear.com/docs/en/datasheet/2954fb.pdf; ComponentLink3Description: Package Specification; ComponentLink3URL: http://cds.linear.com/docs/en/packaging/SOT_8_05-08-1637.pdf
footprint LT-TS8-8-TSOT-23_V (SOT23, 8-Leads, Body 2.9x1.75mm, Pitch 0.65mm)
pins: 1 VIN (power) "Power Supply Input: 2.7V to 26.4V", 2 ~{PB} (in) "Pushbutton Input. Connecting P\B\ to  ground through a momentary switch provides on/off  control via the EN/E\N\ and I\N\T\ outputs. An internal 100k  pull-up resistor connects to an internal 1.9V bias voltage.  The rugged (See Datasheet)", 3 ONT (in) "Turn-On Time Input. Placing an external  capacitor to ground determines the additional time (6.4  seconds/uF) the P\B\ pin must be held low before the enable  output is asserted. Floating this pin results in a default  turn (See Datasheet)", 4 GND (power) "Device Ground.", 5 ~{INT} (oc) "Open Drain Interrupt Output. After a  pushbutton turn-off event is detected (tDB,OFF ), the LTC2954  interrupts the system (uP) by asserting the I\N\T\ pin low.  The uP would perform power-down and housekeeping  tasks and (See Datasheet)", 6 EN (oc) "Open Drain Enable Output.  This pin is intended to enable system power. EN is asserted  high after a valid P\B\ turn-on event (tDB,ON + tONT). EN is  released low if: a) K\I\L\L\ is not driven high (by uP) within  512ms of (See Datasheet)", 7 PDT (in) "Power-Down Time Input. A capacitor  to ground determines the additional time (6.4 seconds/uF)  that the pushbutton must be held low before immediately  releasing the EN/E\N\ and I\N\T\ outputs. Floating this pin  results in (See Datasheet)", 8 ~{KILL} (in) "Kill Input. Forcing K\I\L\L\ low releases the  enable output. During system turn-on, this pin is blanked by  a 512ms internal timer (tK\I\L\L\,ON BLANK) to allow the system  to pull K\I\L\L\ high. This pin has an accurate 0.(See Datasheet)"